# EAGLE library part EMD2 (library harrison)
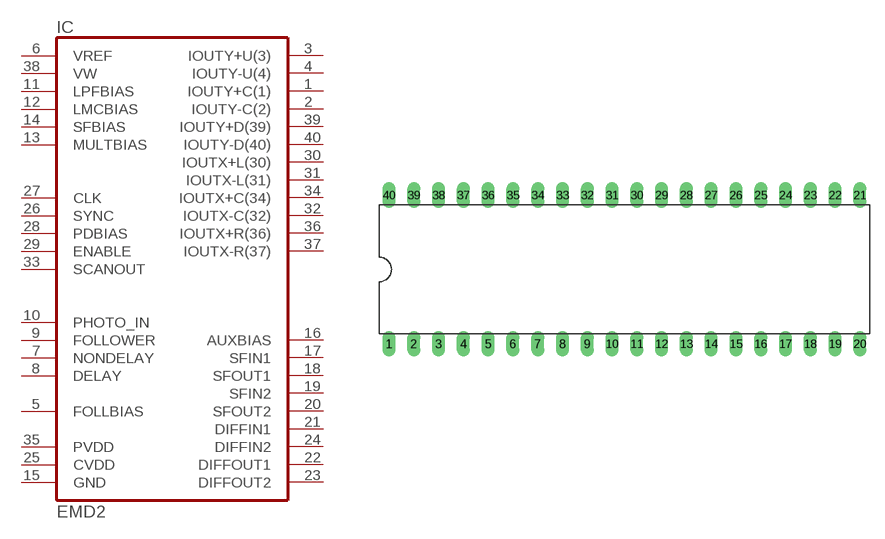
[diagram p0: symbol with the pads of DIL40; footprint DIL40]

Designator prefix IC

## EMD2  [DIL40]
1  IOUTY+C(1)  out
2  IOUTY-C(2)  out
3  IOUTY+U(3)  out
4  IOUTY-U(4)  out
5  FOLLBIAS  in
6  VREF  in
7  NONDELAY  out
8  DELAY  out
9  FOLLOWER  out
10  PHOTO_IN  in
11  LPFBIAS  in
12  LMCBIAS  in
13  MULTBIAS  in
14  SFBIAS  in
15  GND  pwr
16  AUXBIAS  in
17  SFIN1  in
18  SFOUT1  out
19  SFIN2  in
20  SFOUT2  out
21  DIFFIN1  in
22  DIFFOUT1  out
23  DIFFOUT2  out
24  DIFFIN2  in
25  CVDD  pwr
26  SYNC  out
27  CLK  in
28  PDBIAS  in
29  ENABLE  in
30  IOUTX+L(30)  out
31  IOUTX-L(31)  out
32  IOUTX-C(32)  out
33  SCANOUT  out
34  IOUTX+C(34)  out
35  PVDD  pwr
36  IOUTX+R(36)  out
37  IOUTX-R(37)  out
38  VW  in
39  IOUTY+D(39)  out
40  IOUTY-D(40)  out

## Footprint DIL40 (pad centres in mm)
drill 0.813 long: 1 -22.86,-7.62; 2 -20.32,-7.62; 3 -17.78,-7.62; 4 -15.24,-7.62; 5 -12.7,-7.62; 6 -10.16,-7.62; 7 -7.62,-7.62; 8 -5.08,-7.62; 9 -2.54,-7.62; 10 0,-7.62; 11 2.54,-7.62; 12 5.08,-7.62; 13 7.62,-7.62; 14 10.16,-7.62; 15 12.7,-7.62; 16 15.24,-7.62; 17 17.78,-7.62; 18 20.32,-7.62; 19 22.86,-7.62; 20 25.4,-7.62; 21 25.4,7.62; 22 22.86,7.62; 23 20.32,7.62; 24 17.78,7.62; 25 15.24,7.62; 26 12.7,7.62; 27 10.16,7.62; 28 7.62,7.62; 29 5.08,7.62; 30 2.54,7.62; 31 0,7.62; 32 -2.54,7.62; 33 -5.08,7.62; 34 -7.62,7.62; 35 -10.16,7.62; 36 -12.7,7.62; 37 -15.24,7.62; 38 -17.78,7.62; 39 -20.32,7.62; 40 -22.86,7.62